# Altium footprint library 接口.PCBLIB: 266 footprints (part 3 of 17)
Each footprint in its own frame and in the unit in brackets; x right, y up, seen from the top. Pads: shape width x height; smd on the part's side, far side on the other; paste and mask are expansions set on the pad; w line width, h text height; cw(c..) or ccw(c..) is an arc to the next point about the centre after c.
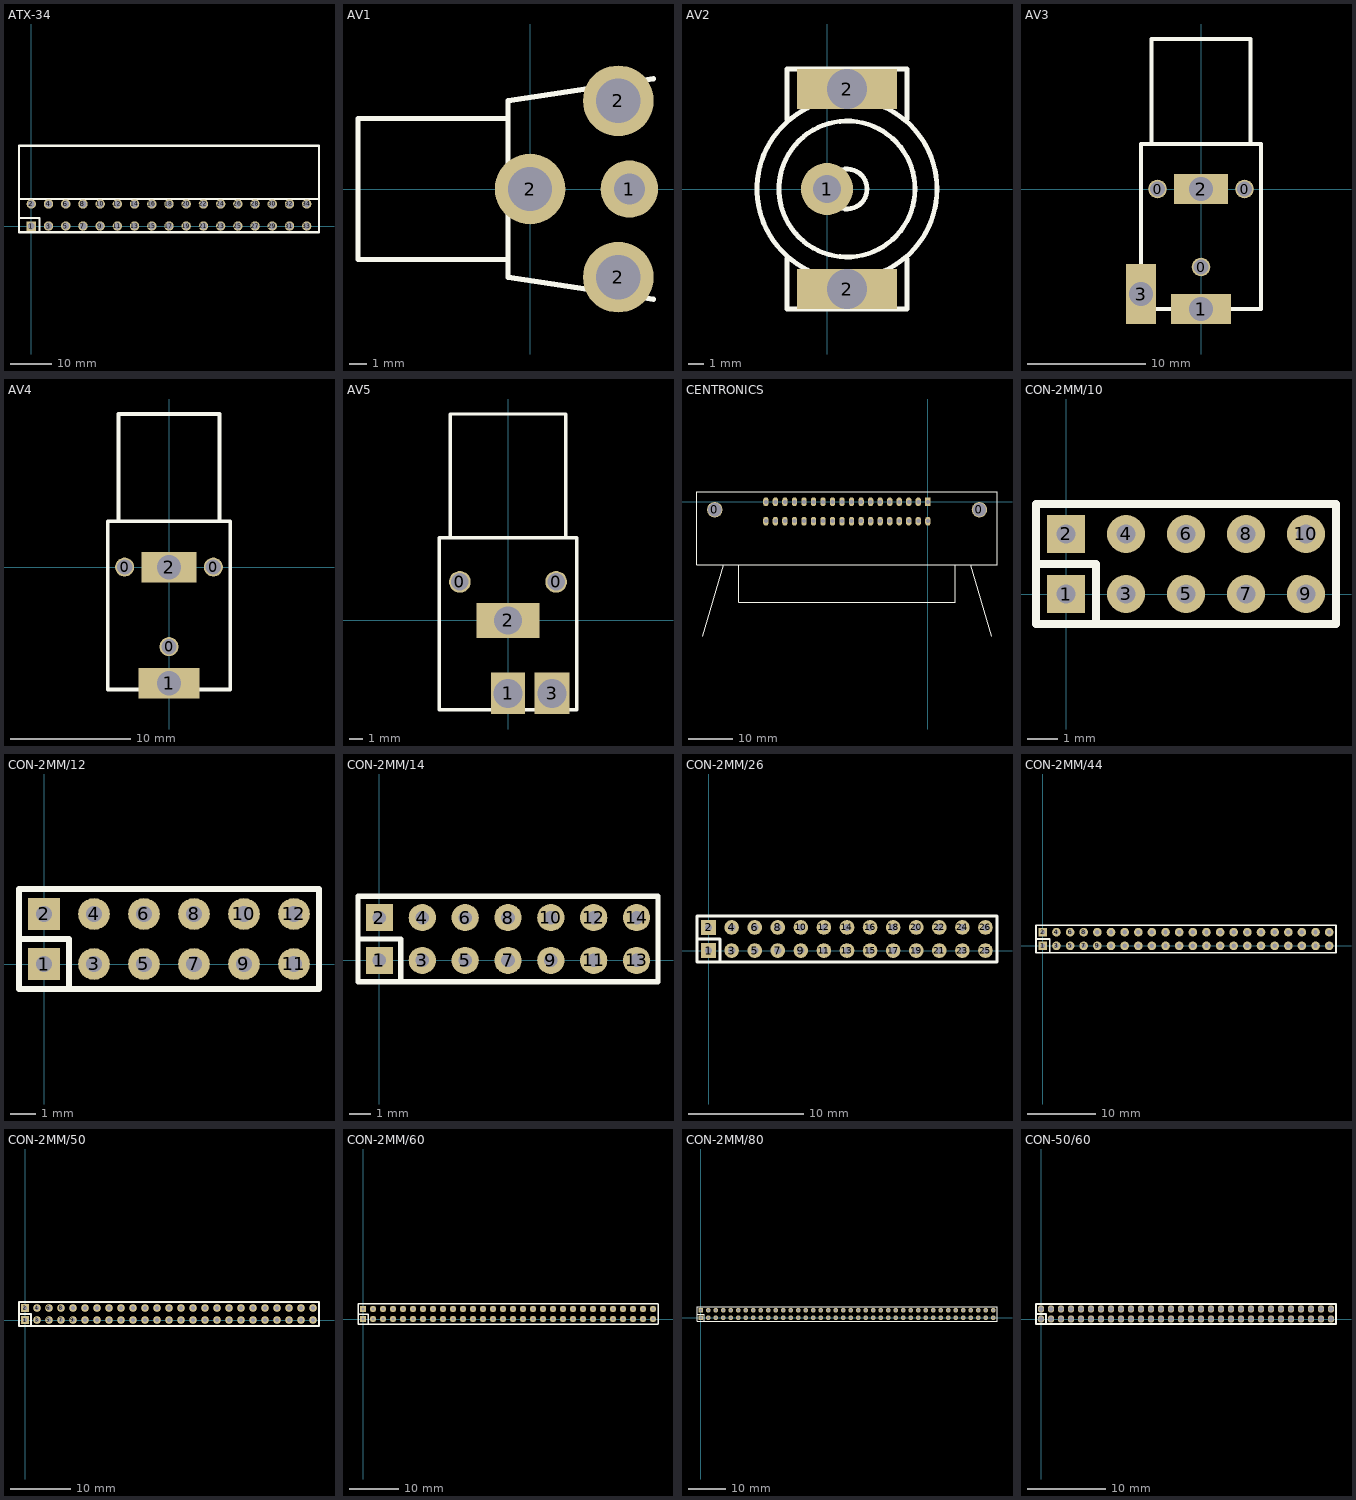
[diagram p2: the footprints below, top view; thin cyan lines are the x and y axes]

## ATX-34 [mil]
pads (34):
  rect 90x90 hole 65: 1(0,0)
  round 90 hole 65: 2(0,212.6) 3(165.35,0) 4(165.35,212.6) 5(330.71,0) 6(330.71,212.6) 7(496.06,0) 8(496.06,212.6) 9(661.42,0) 10(661.42,212.6) 11(826.77,0) 12(826.77,212.6) 13(992.13,0) 14(992.13,212.6) 15(1157.48,0) 16(1157.48,212.6) 17(1322.83,0) 18(1322.83,212.6) 19(1488.19,0) 20(1488.19,212.6) 21(1653.54,0) 22(1653.54,212.6) 23(1818.9,0) 24(1818.9,212.6) 25(1984.25,0) 26(1984.25,212.6) 27(2149.61,0) 28(2149.61,212.6) 29(2314.96,0) 30(2314.96,212.6) 31(2480.32,0) 32(2480.32,212.6) 33(2645.67,0) 34(2645.67,212.6)
TopOverlay:
  lines w20: -118.11,78.74 78.74,78.74 78.74,-59.06 ; -118.11,259.84 2763.78,259.84 ; -118.11,-59.06 2763.78,-59.06 2763.78,771.65 -118.11,771.65 -118.11,-59.06

## AV1 [mil]
pads (4):
  round 130 hole 70: 1(225,0)
  round 160 hole 100: 2(0,0) 2(200,-200) 2(200,200)
TopOverlay:
  lines w12: -50,-160 -390,-160 -390,160 -50,160 ; 280,-250 -50,-200 -50,200 280,250

## AV2 [mil]
pads (3):
  round 130 hole 70: 1(0,0)
  rect 250x100 hole 100: 2(50,-250) 2(50,250)
TopOverlay:
  circle w12: c50,0 r50
  circle w12: c50,0 r170
  circle w12: c50,0 r225
  lines w12: -100,-175 -100,-300 200,-300 200,-175 ; -100,175 -100,300 200,300 200,175

## AV3 [mil]
pads (6):
  round 62 hole 50: 0(-145,0) 0(0,-260) 0(145,0)
  rect 200x100 hole 80: 1(0,-400)
  rect 180x100 hole 80: 2(0,0)
  rect 100x200 hole 80: 3(-200,-350)
TopOverlay:
  lines w12: -165,150 -165,500 165,500 165,150 ; -200,-400 200,-400 200,150 -200,150 -200,-400

## AV4 [mil]
pads (5):
  round 62 hole 50: 0(-145,0) 0(0,-260) 0(145,0)
  rect 200x100 hole 80: 1(0,-380)
  rect 180x100 hole 80: 2(0,0)
TopOverlay:
  lines w12: -165,150 -165,500 165,500 165,150 ; -200,-400 200,-400 200,150 -200,150 -200,-400

## AV5 [mm]
pads (5):
  round 1.575 hole 1.27: 0(-3.5,2.8) 0(3.5,2.8)
  rect 2.5x3 hole 2.1: 1(0,-5.3)
  rect 4.572x2.54 hole 2.032: 2(0,0)
  rect 2.54x3 hole 2.1: 3(3.2,-5.3)
TopOverlay:
  lines w0.254: -4.2,6 -4.2,15 4.2,15 4.2,6 ; -5,-6.5 -5,0 -5,6 5,6 5,0 5,-6.5 -5,-6.5

## CENTRONICS [mm]
pads (38):
  round 3.5 hole 3: 0(-48.3,-1.8) 0(11.7,-1.8)
  rect 1.2x2 hole 0.9: 1(0,0)
  oval 1.2x2 hole 0.9: 2(-2.16,0) 3(-4.32,0) 4(-6.48,0) 5(-8.64,0) 6(-10.8,0) 7(-12.96,0) 8(-15.12,0) 9(-17.28,0) 10(-19.44,0) 11(-21.6,0) 12(-23.76,0) 13(-25.92,0) 14(-28.08,0) 15(-30.24,0) 16(-32.4,0) 17(-34.56,0) 18(-36.72,0) 19(0,-4.4) 20(-2.16,-4.4) 21(-4.32,-4.4) 22(-6.48,-4.4) 23(-8.64,-4.4) 24(-10.8,-4.4) 25(-12.96,-4.4) 26(-15.12,-4.4) 27(-17.28,-4.4) 28(-19.44,-4.4) 29(-21.6,-4.4) 30(-23.76,-4.4) 31(-25.92,-4.4) 32(-28.08,-4.4) 33(-30.24,-4.4) 34(-32.4,-4.4) 35(-34.56,-4.4) 36(-36.72,-4.4)
TopOverlay:
  lines w0.203: -51.02,-30.5 -46.22,-14.3 ; -42.82,-14.3 -42.82,-22.8 6.18,-22.8 6.18,-14.3 ; 9.58,-14.3 14.38,-30.5 ; -52.32,-14.3 15.68,-14.3 15.68,2.3 -52.32,2.3 -52.32,-14.3

## CON-2MM/10 [mm]
pads (10):
  rect 1.27x1.27 hole 0.635: 1(0,0) 2(0,2)
  round 1.27 hole 0.635: 3(2,0) 4(2,2) 5(4,0) 6(4,2) 7(6,0) 8(6,2) 9(8,0) 10(8,2)
TopOverlay:
  lines w0.254: -1,1 1,1 ; -1,1 -1,-1 9,-1 9,1 9,3 -1,3 -1,1 ; 1,1 1,-1 1,1

## CON-2MM/12 [mm]
pads (12):
  rect 1.27x1.27 hole 0.635: 1(0,0) 2(0,2)
  round 1.27 hole 0.635: 3(2,0) 4(2,2) 5(4,0) 6(4,2) 7(6,0) 8(6,2) 9(8,0) 10(8,2) 11(10,0) 12(10,2)
TopOverlay:
  lines w0.254: -1,1 -1,3 11,3 11,1 11,-1 -1,-1 -1,1 ; -1,1 1,1 ; 1,1 1,-1 1,1

## CON-2MM/14 [mm]
pads (14):
  rect 1.27x1.27 hole 0.635: 1(0,0) 2(0,2)
  round 1.27 hole 0.635: 3(2,0) 4(2,2) 5(4,0) 6(4,2) 7(6,0) 8(6,2) 9(8,0) 10(8,2) 11(10,0) 12(10,2) 13(12,0) 14(12,2)
TopOverlay:
  lines w0.254: -1,1 -1,3 13,3 13,1 13,-1 -1,-1 -1,1 ; -1,1 1,1 ; 1,1 1,-1 1,1

## CON-2MM/26 [mm]
pads (26):
  rect 1.27x1.27 hole 0.635: 1(0,0) 2(0,2)
  round 1.27 hole 0.635: 3(2,0) 4(2,2) 5(4,0) 6(4,2) 7(6,0) 8(6,2) 9(8,0) 10(8,2) 11(10,0) 12(10,2) 13(12,0) 14(12,2) 15(14,0) 16(14,2) 17(16,0) 18(16,2) 19(18,0) 20(18,2) 21(20,0) 22(20,2) 23(22,0) 24(22,2) 25(24,0) 26(24,2)
TopOverlay:
  lines w0.254: -1,1 -1,3 25,3 25,1 25,-1 -1,-1 -1,1 ; -1,1 1,1 ; 1,1 1,-1 1,1

## CON-2MM/44 [mm]
pads (44):
  rect 1.27x1.27 hole 0.635: 1(0,0) 2(0,2)
  round 1.27 hole 0.635: 3(2,0) 4(2,2) 5(4,0) 6(4,2) 7(6,0) 8(6,2) 9(8,0) 10(8,2) 11(10,0) 12(10,2) 13(12,0) 14(12,2) 15(14,0) 16(14,2) 17(16,0) 18(16,2) 19(18,0) 20(18,2) 21(20,0) 22(20,2) 23(22,0) 24(22,2) 25(24,0) 26(24,2) 27(26,0) 28(26,2) 29(28,0) 30(28,2) 31(30,0) 32(30,2) 33(32,0) 34(32,2) 35(34,0) 36(34,2) 37(36,0) 38(36,2) 39(38,0) 40(38,2) 41(40,0) 42(40,2) 43(42,0) 44(42,2)
TopOverlay:
  lines w0.254: 33,-1 43,-1 43,1 43,3 33,3 ; 35,-1 -1,-1 -1,1 ; 35,3 -1,3 -1,1 ; -1,1 1,1 ; 1,1 1,-1 1,1

## CON-2MM/50 [mm]
pads (50):
  rect 1.27x1.27 hole 0.635: 1(0,0) 2(0,2)
  round 1.27 hole 0.635: 3(2,0) 4(2,2) 5(4,0) 6(4,2) 7(6,0) 8(6,2) 9(8,0) 10(8,2) 11(10,0) 12(10,2) 13(12,0) 14(12,2) 15(14,0) 16(14,2) 17(16,0) 18(16,2) 19(18,0) 20(18,2) 21(20,0) 22(20,2) 23(22,0) 24(22,2) 25(24,0) 26(24,2) 27(26,0) 28(26,2) 29(28,0) 30(28,2) 31(30,0) 32(30,2) 33(32,0) 34(32,2) 35(34,0) 36(34,2) 37(36,0) 38(36,2) 39(38,0) 40(38,2) 41(40,0) 42(40,2) 43(42,0) 44(42,2) 45(44,0) 46(44,2) 47(46,0) 48(46,2) 49(48,0) 50(48,2)
TopOverlay:
  lines w0.254: 33,-1 49,-1 49,1 49,3 33,3 ; 35,-1 -1,-1 -1,1 ; 35,3 -1,3 -1,1 ; -1,1 1,1 ; 1,1 1,-1 1,1

## CON-2MM/60 [mm]
pads (60):
  rect 1.27x1.27 hole 0.635: 1(0,0) 2(0,2)
  round 1.27 hole 0.635: 3(2,0) 4(2,2) 5(4,0) 6(4,2) 7(6,0) 8(6,2) 9(8,0) 10(8,2) 11(10,0) 12(10,2) 13(12,0) 14(12,2) 15(14,0) 16(14,2) 17(16,0) 18(16,2) 19(18,0) 20(18,2) 21(20,0) 22(20,2) 23(22,0) 24(22,2) 25(24,0) 26(24,2) 27(26,0) 28(26,2) 29(28,0) 30(28,2) 31(30,0) 32(30,2) 33(32,0) 34(32,2) 35(34,0) 36(34,2) 37(36,0) 38(36,2) 39(38,0) 40(38,2) 41(40,0) 42(40,2) 43(42,0) 44(42,2) 45(44,0) 46(44,2) 47(46,0) 48(46,2) 49(48,0) 50(48,2) 51(50,0) 52(50,2) 53(52,0) 54(52,2) 55(54,0) 56(54,2) 57(56,0) 58(56,2) 59(58,0) 60(58,2)
TopOverlay:
  lines w0.254: 33,-1 59,-1 59,1 59,3 33,3 ; 35,-1 -1,-1 -1,1 ; 35,3 -1,3 -1,1 ; -1,1 1,1 ; 1,1 1,-1 1,1

## CON-2MM/80 [mm]
pads (80):
  rect 1.27x1.27 hole 0.635: 1(0,0) 2(0,2)
  round 1.27 hole 0.635: 3(2,0) 4(2,2) 5(4,0) 6(4,2) 7(6,0) 8(6,2) 9(8,0) 10(8,2) 11(10,0) 12(10,2) 13(12,0) 14(12,2) 15(14,0) 16(14,2) 17(16,0) 18(16,2) 19(18,0) 20(18,2) 21(20,0) 22(20,2) 23(22,0) 24(22,2) 25(24,0) 26(24,2) 27(26,0) 28(26,2) 29(28,0) 30(28,2) 31(30,0) 32(30,2) 33(32,0) 34(32,2) 35(34,0) 36(34,2) 37(36,0) 38(36,2) 39(38,0) 40(38,2) 41(40,0) 42(40,2) 43(42,0) 44(42,2) 45(44,0) 46(44,2) 47(46,0) 48(46,2) 49(48,0) 50(48,2) 51(50,0) 52(50,2) 53(52,0) 54(52,2) 55(54,0) 56(54,2) 57(56,0) 58(56,2) 59(58,0) 60(58,2) 61(60,0) 62(60,2) 63(62,0) 64(62,2) 65(64,0) 66(64,2) 67(66,0) 68(66,2) 69(68,0) 70(68,2) 71(70,0) 72(70,2) 73(72,0) 74(72,2) 75(74,0) 76(74,2) 77(76,0) 78(76,2) 79(78,0) 80(78,2)
TopOverlay:
  lines w0.254: 33,-1 79,-1 79,1 79,3 33,3 ; 35,-1 -1,-1 -1,1 ; 35,3 -1,3 -1,1 ; -1,1 1,1 ; 1,1 1,-1 1,1

## CON-50/60 [mil]
pads (60):
  oval 31x36 hole 24: 1(0,0) 2(0,50) 3(50,0) 4(50,50) 5(100,0) 6(100,50) 7(150,0) 8(150,50) 9(200,0) 10(200,50) 11(250,0) 12(250,50) 13(300,0) 14(300,50) 15(350,0) 16(350,50) 17(400,0) 18(400,50) 19(450,0) 20(450,50) 21(500,0) 22(500,50) 23(550,0) 24(550,50) 25(600,0) 26(600,50) 27(650,0) 28(650,50) 29(700,0) 30(700,50) 31(750,0) 32(750,50) 33(800,0) 34(800,50) 35(850,0) 36(850,50) 37(900,0) 38(900,50) 39(950,0) 40(950,50) 41(1000,0) 42(1000,50) 43(1050,0) 44(1050,50) 45(1100,0) 46(1100,50) 47(1150,0) 48(1150,50) 49(1200,0) 50(1200,50) 51(1250,0) 52(1250,50) 53(1300,0) 54(1300,50) 55(1350,0) 56(1350,50) 57(1400,0) 58(1400,50) 59(1450,0) 60(1450,50)
TopOverlay:
  lines w8: -25,-25 1475,-25 ; -25,-23.43 -25,75 1475,75 1475,-23.43 ; -25,25 26.18,25 ; 25,-22.24 25,25